# Altium footprint library SHT21.PcbLib: 1 footprints
Each footprint in its own frame and in the unit in brackets; x right, y up, seen from the top. Pads: shape width x height; smd on the part's side, far side on the other; paste and mask are expansions set on the pad; w line width, h text height; cw(c..) or ccw(c..) is an arc to the next point about the centre after c.
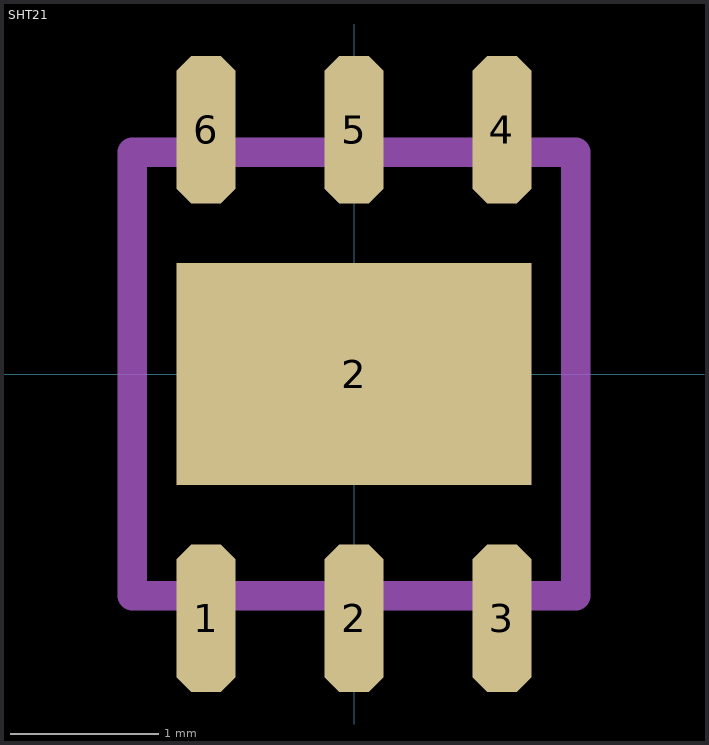
[diagram p0: the footprint, top view; thin cyan lines are the x and y axes]

## SHT21 [mm]
pads (7):
  oct 0.4x1 smd: 1(-1,-1.651) 2(0,-1.651) 3(1,-1.651) 4(1,1.651) 5(0,1.651) 6(-1,1.651)
  rect 2.4x1.5 smd: 2(0,0)
Mechanical 13:
  lines w0.2: -1.5,-1.5 1.5,-1.5 1.5,1.5 -1.5,1.5 -1.5,-1.5